# Altium schematic symbol library MAX30102.SchLib: 1 symbol
Pins are listed as number, name and electrical type; pins without a type are passive.

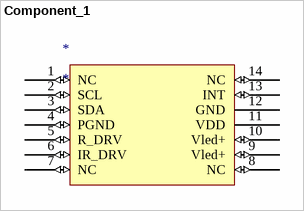
[diagram p0: symbol Component_1]

## Component_1
designator *
footprint SON80P330X100-14N (SON, 14-Leads, Body 5.60x3.30mm, Pitch 0.80mm, IPC Medium Density)
pins: 1 NC (io), 2 SCL (io), 3 SDA (io), 4 PGND (io), 5 R_DRV (io), 6 IR_DRV (io), 7 NC (io), 8 NC (io), 9 Vled+ (io), 10 Vled+ (io), 11 VDD (power), 12 GND (power), 13 INT (io), 14 NC (io)